# Altium footprint library SD_Card_Conn_KYOCERA_145638009511859+.PcbLib: 1 footprints
Each footprint in its own frame and in the unit in brackets; x right, y up, seen from the top. Pads: shape width x height; smd on the part's side, far side on the other; paste and mask are expansions set on the pad; w line width, h text height; cw(c..) or ccw(c..) is an arc to the next point about the centre after c.
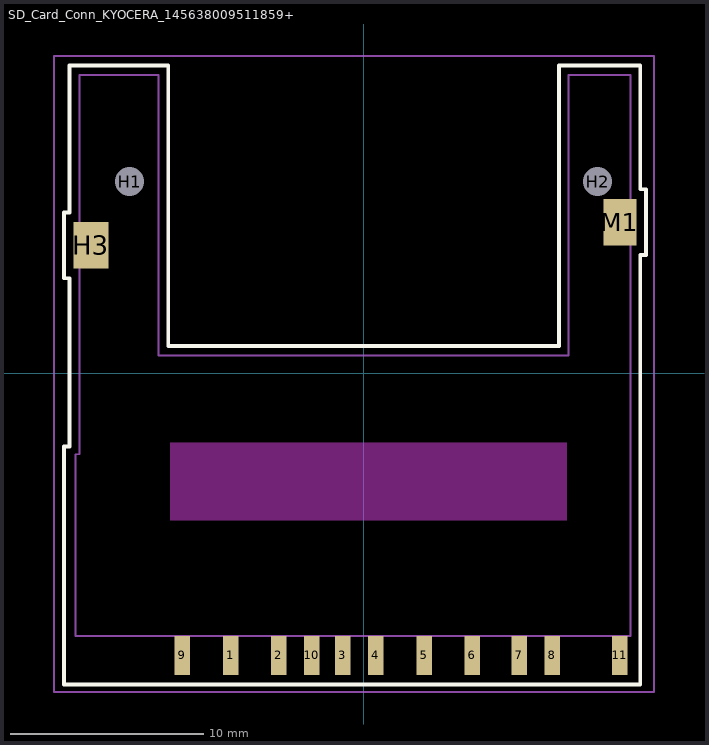
[diagram p0: the footprint, top view; thin cyan lines are the x and y axes]

## SD_Card_Conn_KYOCERA_145638009511859+ [mm]
height 3
pads (15):
  rect 0.8x2 smd: 1(-6.88,-14.6) 2(-4.38,-14.6) 3(-1.08,-14.6) 4(0.62,-14.6) 5(3.12,-14.6) 6(5.62,-14.6) 7(8.05,-14.6) 8(9.75,-14.6) 9(-9.38,-14.6) 10(-2.68,-14.6) 11(13.24,-14.6)
  round 1.4 hole 1.5 unplated paste+0 mask+0.15: H1(-12.1,9.9) H2(12.1,9.9)
  rect 1.8x2.4 smd: H3(-14.1,6.6)
  rect 1.7x2.4 smd: M1(13.25,7.8)
Top Overlay:
  lines w0.2: -15.5,-16.1 14.3,-16.1 14.3,6.1 14.6,6.1 14.6,6.7 14.6,9.5 14.3,9.5 14.3,15.9 10.1,15.9 10.1,1.4 -10.1,1.4 -10.1,15.9 -15.2,15.9 -15.2,8.3 -15.5,8.3 -15.5,4.9 -15.2,4.9 -15.2,-3.8 -15.5,-3.8 -15.5,-16.1
Keep-Out Layer:
  region: -10,-3.6 10.5,-3.6 10.5,-7.6 -10,-7.6
Mechanical 13:
  lines w0.1: -14.9,-13.6 -14.9,-4.2 -14.7,-4.2 -14.7,15.4 -10.6,15.4 -10.6,0.9 10.6,0.9 10.6,15.4 13.8,15.4 13.8,-13.6 -14.9,-13.6
Mechanical 15:
  lines w0.1: -16,-16.5 -16,16.4 15,16.4 15,-16.5 -16,-16.5
3D body: height 2.9, standoff -0.7, extent -14.25,-15 14.25,15.4